# Altium schematic symbol library ON_OFF_FastCharger.SchLib: 23 symbols
Pins are listed as number, name and electrical type; pins without a type are passive.

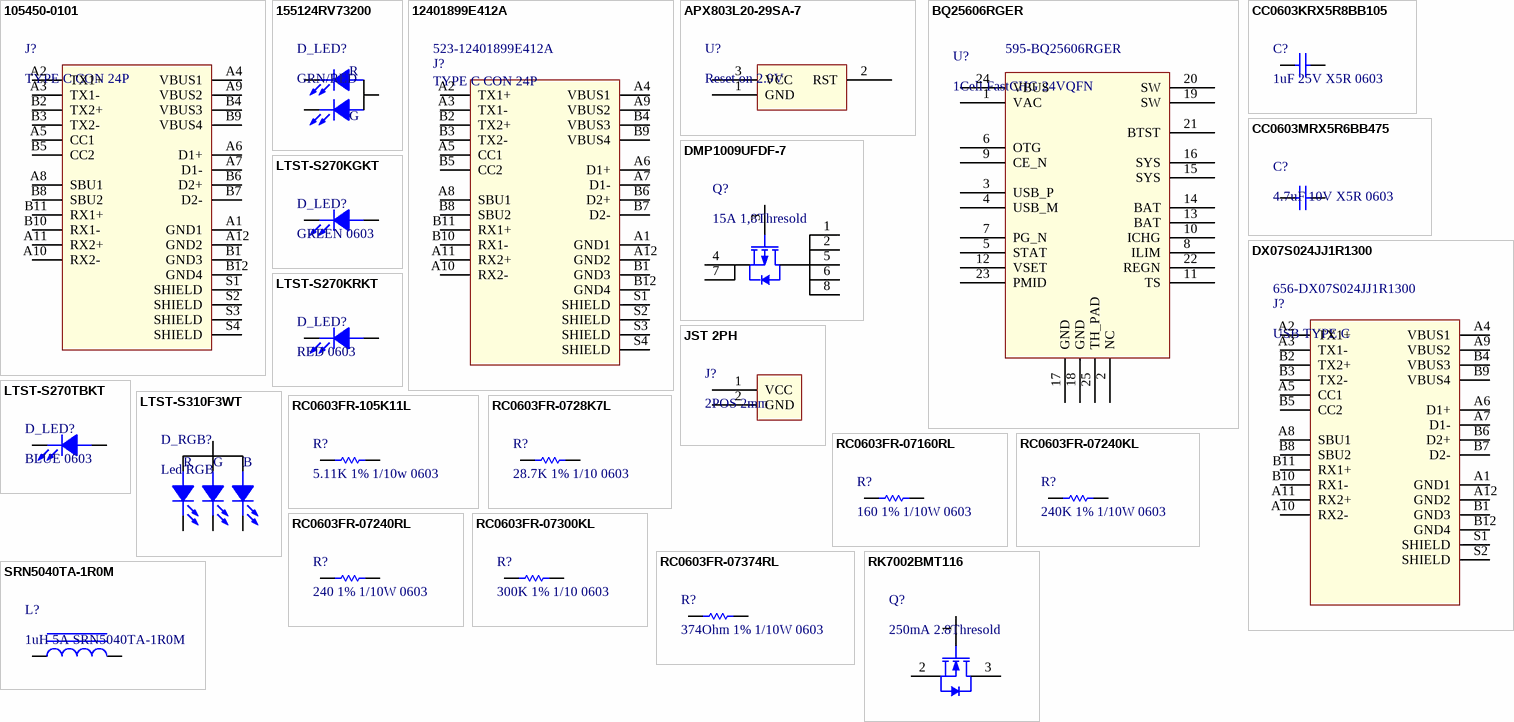
[diagram p0: symbols 105450-0101 to SRN5040TA-1R0M]

## 105450-0101
designator J?, comment TYPE C CON 24P
CONN RCP USB3.1 TYPEC 24P SMD RA; Manufacturer: Molex; Manufacturer Part Number: 105450-0101; Connector Type: USB; Number of Contacts: 24; Gender: Receptacle; Number of Ports: 1; Pitch: 0.5mm; Supplier 1: Mouser; RoHS: Yes; Stock 1: 12932; Pricing 1: 1 = 2,03000, 10 = 1,79000, 50 = 1,79000, 100 = 1,63000, 1000 = 1,38000, 10000 = 1,18000 (USD); Mount: Surface Mount; Case/Package: 0101; Number of Pins: 24; Contact Material: Copper Alloy; Contact Plating: Gold; Number of Terminals: 24; Housing Material: Thermoplastic; Min Operating Temperature: -30°C; Max Operating Temperature: 85°C; Packaging: Tape and Reel; Orientation: Right Angle; Termination: Solder; USB Standard: USB 3.1; Features: Shielded; Length: 8.94mm; REACH SVHC: Unknown; ComponentLink1URL: http://www.farnell.com/datasheets/2673427.pdf?src-supplier=Farnell; ComponentLink1Description: http://www.farnell.com/datasheets/2673427.pdf?src-supplier=Farnell; ComponentLink2URL: http://www.farnell.com/datasheets/2672741.pdf?src-supplier=Newark; ComponentLink2Description: http://www.farnell.com/datasheets/2672741.pdf?src-supplier=Newark; ComponentLink3URL: http://www.farnell.com/datasheets/2015275.pdf?src-supplier=Element14; ComponentLink3Description: http://www.farnell.com/datasheets/2015275.pdf?src-supplier=Element14; ComponentLink4URL: https://www.molex.com/pdm_docs/ps/PS-105448-001.pdf?src-supplier=Digi-Key; ComponentLink4Description: https://www.molex.com/pdm_docs/ps/PS-105448-001.pdf?src-supplier=Digi-Key; ComponentLink5URL: https://www.molex.com/pdm_docs/sd/1054500101_sd.pdf?src-supplier=Digi-Key; ComponentLink5Description: https://www.molex.com/pdm_docs/sd/1054500101_sd.pdf?src-supplier=Digi-Key; ComponentLink6URL: http://www.literature.molex.com/SQLImages/kelmscott/Molex/PDF_Images/987651-4081.PDF?src-supplier=Avnet; ComponentLink6Description: http://www.literature.molex.com/SQLImages/kelmscott/Molex/PDF_Images/987651-4081.PDF?src-supplier=Avnet; ComponentLink7URL: http://www.literature.molex.com/SQLImages/kelmscott/Molex/PDF_Images/987651-4081.PDF?src-supplier=Avnet+Asia; ComponentLink7Description: http://www.literature.molex.com/SQLImages/kelmscott/Molex/PDF_Images/987651-4081.PDF?src-supplier=Avnet+Asia; Supplier Part Number 1: 538-105450-0101
footprint MOLEX_105450-0101_105450-0101
pins: A1 GND1, A2 TX1+, A3 TX1-, A4 VBUS1, A5 CC1, A6 D1+, A7 D1-, A8 SBU1, A9 VBUS2, A10 RX2-, A11 RX2+, A12 GND2, B1 GND3, B2 TX2+, B3 TX2-, B4 VBUS3, B5 CC2, B6 D2+, B7 D2-, B8 SBU2, B9 VBUS4, B10 RX1-, B11 RX1+, B12 GND4, S1 SHIELD, S2 SHIELD, S3 SHIELD, S4 SHIELD

## 155124RV73200
designator D_LED?, comment GRN/RED
LED GRN/RED CLEAR 2SMD R/A; Manufacturer: Wurth Electronics; Manufacturer Part Number: 155124RV73200; Supplier 1: Mouser; RoHS: No; Stock 1: 7338; Pricing 1: 1 = 0,34000, 10 = 0,33600, 50 = 0,27100, 100 = 0,19500, 1000 = 0,17700, 10000 = 0,15900 (USD); ComponentLink1URL: http://www.farnell.com/datasheets/2301735.pdf?src-supplier=Farnell; ComponentLink1Description: http://www.farnell.com/datasheets/2301735.pdf?src-supplier=Farnell; ComponentLink2URL: https://katalog.we-online.de/led/datasheet/155124RV73200.pdf?src-supplier=Digi-Key; ComponentLink2Description: https://katalog.we-online.de/led/datasheet/155124RV73200.pdf?src-supplier=Digi-Key; ComponentLink3URL: http://katalog.we-online.de/led/datasheet/155124RV73200.pdf?src-supplier=Digi-Key; ComponentLink3Description: http://katalog.we-online.de/led/datasheet/155124RV73200.pdf?src-supplier=Digi-Key; Supplier Part Number 1: 710-155124RV73200
footprint 155124RV73200
pins: 1 CATHODE, 2 ANODE, 3 CATHODE
text: R; G

## 12401899E412A
designator J?, comment TYPE C CON 24P  Supplier Part Number 1: 523-12401899E412A
Conectores USB USB Type C RCPT SMT Top mnt dualrow IP52; Manufacturer 1: AMPHENOL ICC (COMMERCIAL PRODUCTS); Manufacturer Part Number 1: 12401899E412A; Supplier 1: Mouser; Stock 1: 597; Pricing 1: 1=1,66000, 10=1,51000, 25=1,41000, 50=1,35000, 100=1,29000, 250=1,23000, 500=1,07000 (USD); RoHS: No
footprint 12401899E412A
pins: A1 GND1, A2 TX1+, A3 TX1-, A4 VBUS1, A5 CC1, A6 D1+, A7 D1-, A8 SBU1, A9 VBUS2, A10 RX2-, A11 RX2+, A12 GND2, B1 GND3, B2 TX2+, B3 TX2-, B4 VBUS3, B5 CC2, B6 D2+, B7 D2-, B8 SBU2, B9 VBUS4, B10 RX1-, B11 RX1+, B12 GND4, S1 SHIELD, S2 SHIELD, S3 SHIELD, S4 SHIELD

## APX803L20-29SA-7
designator U?, comment Reset on 2.9V
RESET GENERATOR SOT23; Manufacturer: Diodes; Manufacturer Part Number: APX803L20-29SA-7; Supplier 1: Mouser; RoHS: No; Stock 1: 5468; Pricing 1: 1 = 0,37000, 10 = 0,27700, 50 = 0,27700, 100 = 0,15000, 1000 = 0,11300, 10000 = 0,09100 (USD); ComponentLink1URL: https://www.diodes.com/assets/Datasheets/APX803L.pdf?src-supplier=Digi-Key; ComponentLink1Description: https://www.diodes.com/assets/Datasheets/APX803L.pdf?src-supplier=Digi-Key; Supplier Part Number 1: 621-APX803L20-29SA-7
footprint SOT-23-3 (SOT23, 3-Leads, Body 2.92x1.3mm, Pitch 0.95mm)
pins: 1 GND, 2 RST, 3 VCC

## BQ25606RGER
designator U?, comment 1Cell FastCHG 24VQFN  Supplier Part Number 1: 595-BQ25606RGER
IC BATT CHG LI-ION 1 CELL 24VQFN; Manufacturer: Texas Instruments; Manufacturer Part Number: BQ25606RGER; Number of Cells: 1; Supplier 1: Mouser; RoHS: No; Stock 1: 20697; Pricing 1: 1 = 2,68000, 10 = 2,41000, 50 = 2,41000, 100 = 1,97000, 1000 = 1,41000, 10000 = 1,29000 (USD); ComponentLink1URL: http://www.ti.com/lit/ds/symlink/bq25606.pdf?src-supplier=Digi-Key; ComponentLink1Description: http://www.ti.com/lit/ds/symlink/bq25606.pdf?src-supplier=Digi-Key
footprint VQFN24 4x4mm
pins: 1 VAC, 2 NC, 3 USB_P, 4 USB_M, 5 STAT, 6 OTG, 7 PG_N, 8 ILIM, 9 CE_N, 10 ICHG, 11 TS, 12 VSET, 13 BAT, 14 BAT, 15 SYS, 16 SYS, 17 GND, 18 GND, 19 SW, 20 SW, 21 BTST, 22 REGN, 23 PMID, 24 VBUS, 25 TH_PAD

## CC0603KRX5R8BB105
designator C?, comment 1uF 25V X5R 0603
CAP CER 1UF 25V X5R 0603; Manufacturer: Yageo; Manufacturer Part Number: CC0603KRX5R8BB105; Tolerance: 10%; Supplier 1: Mouser; RoHS: Yes; Stock 1: 9605452; Pricing 1: 1 = 0,10000, 10 = 0,04700, 50 = 0,04700, 100 = 0,01700, 1000 = 0,01600, 10000 = 0,00800 (USD); Mount: Surface Mount; Case/Package: 0603; Number of Pins: 2; Case Code (Metric): 1608; Case Code (Imperial): 0603; Min Operating Temperature: -55°C; Max Operating Temperature: 85°C; Capacitance: 1uF; Dielectric: X5R; Package Quantity: 1; Voltage Rating: 25V; Packaging: Tape and Reel; Termination: SMD/SMT; Voltage Rating (DC): 25V; Length: 1.6mm; Height: 0.8mm; Width: 0.031inch; Thickness: 0.035inch; Depth: 0.8mm; Radiation Hardening: No; REACH SVHC: No SVHC; Lead Free: Lead Free; Halogen Free: Halogen Free; ComponentLink1URL: https://datasheet.ciiva.com/176/mlccorderingcode-176785.pdf?src-supplier=Digi-Key; ComponentLink1Description: https://datasheet.ciiva.com/176/mlccorderingcode-176785.pdf?src-supplier=Digi-Key; ComponentLink2URL: https://datasheet.ciiva.com/176/mlccorderingcode-176786.pdf?src-supplier=Digi-Key; ComponentLink2Description: https://datasheet.ciiva.com/176/mlccorderingcode-176786.pdf?src-supplier=Digi-Key; ComponentLink3URL: https://datasheet.ciiva.com/176/mlccorderingcode-176787.pdf?src-supplier=Digi-Key; ComponentLink3Description: https://datasheet.ciiva.com/176/mlccorderingcode-176787.pdf?src-supplier=Digi-Key; ComponentLink4URL: https://datasheet.ciiva.com/17436/upy-gphc-x5r-4v-to-50v-12-17436952.pdf?src-supplier=Avnet+Europe; ComponentLink4Description: https://datasheet.ciiva.com/17436/upy-gphc-x5r-4v-to-50v-12-17436952.pdf?src-supplier=Avnet+Europe; ComponentLink5URL: https://datasheet.ciiva.com/7978/1525783-7978171.pdf?src-supplier=Element14; ComponentLink5Description: https://datasheet.ciiva.com/7978/1525783-7978171.pdf?src-supplier=Element14; ComponentLink6URL: https://datasheet.ciiva.com/11586/upy-gphc-x5r-4v-to-50v-12-11586318.pdf?src-supplier=Avnet; ComponentLink6Description: https://datasheet.ciiva.com/11586/upy-gphc-x5r-4v-to-50v-12-11586318.pdf?src-supplier=Avnet; Supplier Part Number 1: 603-CC603KRX5R8BB105
footprint C 0603/1608
pins: 1, 2

## CC0603MRX5R6BB475
designator C?, comment 4.7uF 10V X5R 0603
Cap Ceramic 4.7uF 10V X5R 20% SMD 0603 85C Paper T/R; Manufacturer: Yageo; Manufacturer Part Number: CC0603MRX5R6BB475; Supplier 1: Mouser; RoHS: Yes; Stock 1: 4180; Pricing 1: 1 = 0,19000, 10 = 0,09400, 50 = 0,09400, 100 = 0,05100, 1000 = 0,05100, 10000 = 0,02800 (USD); Mount: Surface Mount; Case/Package: 0603; Case Code (Metric): 1608; Case Code (Imperial): 0603; Min Operating Temperature: -55°C; Max Operating Temperature: 85°C; Capacitance: 4.7uF; Tolerance: 20%; Packaging: Tape and Reel; Dielectric: X5R; Voltage Rating: 10V; Voltage Rating (DC): 10V; Length: 1.6mm; Width: 0.031inch; Thickness: 0.035inch; Depth: 0.8mm; Radiation Hardening: No; Lead Free: Lead Free; Halogen Free: Halogen Free; ComponentLink1URL: http://www.mouser.com/ds/2/447/UPY-GPHC_X5R_4V-to-50V_24-1109650.pdf?src-supplier=Mouser; ComponentLink1Description: http://www.mouser.com/ds/2/447/UPY-GPHC_X5R_4V-to-50V_24-1109650.pdf?src-supplier=Mouser; ComponentLink2URL: http://components.arrow.com/part/dataview/0323_04166524?src-supplier=Arrow+Europe; ComponentLink2Description: http://components.arrow.com/part/dataview/0323_04166524?src-supplier=Arrow+Europe; ComponentLink3URL: http://www.yageo.com/documents/recent/UPY-GPHC_X5R_4V-to-50V_25.pdf?src-supplier=Digi-Key; ComponentLink3Description: http://www.yageo.com/documents/recent/UPY-GPHC_X5R_4V-to-50V_25.pdf?src-supplier=Digi-Key; ComponentLink4URL: http://www.yageo.com/exep/pages/download/literatures/ProductSelectionGuide%202014_Final_2.pdf?src-supplier=Digi-Key; ComponentLink4Description: http://www.yageo.com/exep/pages/download/literatures/ProductSelectionGuide%202014_Final_2.pdf?src-supplier=Digi-Key; Supplier Part Number 1: 603-CC603MRX5R6BB475
footprint C 0603/1608
pins: 1, 2

## DMP1009UFDF-7
designator Q?, comment 15A 1,8Thresold
MOSFET P-CH 12V 15A UDFN2020-6; Manufacturer: Diodes; Manufacturer Part Number: DMP1009UFDF-7; Supplier 1: Mouser; RoHS: No; Stock 1: 2267; Pricing 1: 1 = 0,43000, 10 = 0,36100, 50 = 0,36100, 100 = 0,22000, 1000 = 0,17000, 10000 = 0,14500 (USD); ComponentLink1URL: https://www.diodes.com/assets/Datasheets/DMP1009UFDF.pdf?src-supplier=Digi-Key; ComponentLink1Description: https://www.diodes.com/assets/Datasheets/DMP1009UFDF.pdf?src-supplier=Digi-Key; Supplier Part Number 1: 621-DMP1009UFDF-7
footprint DMP1009UFDF-7
pins: 1 D, 2 D, 3 G, 4 S, 5 D, 6 D, 7 S, 8 D

## DX07S024JJ1R1300
designator J?, comment USB TYPE C  Supplier Part Number 1: 656-DX07S024JJ1R1300
Conectores USB USB Type C Rcptcl with Rear Shield; Manufacturer: JAE Electronics; Manufacturer Part Number: DX07S024JJ1R1300; Supplier 1: Mouser; RoHS: No; Category: Connectors; Stock 1: 2730
footprint DX07S024JJ1R1300
pins: A1 GND1, A2 TX1+, A3 TX1-, A4 VBUS1, A5 CC1, A6 D1+, A7 D1-, A8 SBU1, A9 VBUS2, A10 RX2-, A11 RX2+, A12 GND2, B1 GND3, B2 TX2+, B3 TX2-, B4 VBUS3, B5 CC2, B6 D2+, B7 D2-, B8 SBU2, B9 VBUS4, B10 RX1-, B11 RX1+, B12 GND4, S1 SHIELD, S2 SHIELD

## JST 2PH
designator J?, comment 2POS 2mm
https://lcsc.com/product-detail/Wire-To-Board-Wire-To-Wire-Connector_JST-Sales-America_B2B-PH-SM4-TBT-LF-SN_JST-Sales-America-B2B-PH-SM4-TBT-LF-SN_C265003.html
footprint JST 2PH
pins: 1 VCC, 2 GND

## LTST-S270KGKT
designator D_LED?, comment GREEN 0603
LED GREEN CLEAR 0603 R/A SMD; Manufacturer: Vishay Lite-On; Manufacturer Part Number: LTST-S270KGKT; Lens Color: Colorless; Forward Current: 30mA; Forward Voltage: 2V; Power Rating: 75mW; Luminous Intensity: 71mcd; Viewing Angle: 130°; Lens Style: Diffused; Dominant Wavelength: 571nm; Test Current: 20mA; Number of Elements: 1; Wavelength: 574nm; Reverse Voltage: 5V; Supplier 1: Mouser; RoHS: Yes; Stock 1: 134543; Pricing 1: 1 = 0,25000, 10 = 0,13000, 50 = 0,13000, 100 = 0,06100, 1000 = 0,04500, 10000 = 0,03400 (USD); Mount: Surface Mount; Case/Package: 0603; Number of Pins: 2; Color: Green; Case Code (Metric): 1608; Case Code (Imperial): 0603; Min Operating Temperature: -55°C; Max Operating Temperature: 85°C; Illumination Color: Green; Packaging: Tape and Reel; Package Quantity: 1; Lens Transparency: Clear; Power Dissipation: 75mW; Number of LEDs: 1; Length: 1.6mm; Height: 0.6mm; Width: 1.15mm; Depth: 0.6mm; Radiation Hardening: No; Lead Free: Lead Free; ComponentLink1URL: https://datasheet.ciiva.com/12400/ltst-s270kgkt-201847-12400865.pdf?src-supplier=Mouser; ComponentLink1Description: https://datasheet.ciiva.com/12400/ltst-s270kgkt-201847-12400865.pdf?src-supplier=Mouser; ComponentLink2URL: https://datasheet.ciiva.com/2110/ltst-s270kgkt-2110006.pdf?src-supplier=Digi-Key; ComponentLink2Description: https://datasheet.ciiva.com/2110/ltst-s270kgkt-2110006.pdf?src-supplier=Digi-Key; ComponentLink3URL: https://datasheet.ciiva.com/4266/dwonloadfilehandler-ashxtxtspecnods222000226-4266440.pdf?src-supplier=Arrow; ComponentLink3Description: https://datasheet.ciiva.com/4266/dwonloadfilehandler-ashxtxtspecnods222000226-4266440.pdf?src-supplier=Arrow; ComponentLink4URL: https://datasheet.ciiva.com/11774/0900766b80dc0b88-11774745.pdf?src-supplier=RSComponents; ComponentLink4Description: https://datasheet.ciiva.com/11774/0900766b80dc0b88-11774745.pdf?src-supplier=RSComponents; ComponentLink5URL: https://datasheet.ciiva.com/16448/ltst-s270kgkt-16448566.pdf?src-supplier=Future+Electronics; ComponentLink5Description: https://datasheet.ciiva.com/16448/ltst-s270kgkt-16448566.pdf?src-supplier=Future+Electronics; ComponentLink6URL: https://datasheet.ciiva.com/2110/s-110-ltst-s270kgkt-2110007.pdf?src-supplier=Digi-Key; ComponentLink6Description: https://datasheet.ciiva.com/2110/s-110-ltst-s270kgkt-2110007.pdf?src-supplier=Digi-Key; ComponentLink7URL: https://datasheet.ciiva.com/2110/s-110-ltst-s270kgkt-2110008.pdf?src-supplier=Digi-Key; ComponentLink7Description: https://datasheet.ciiva.com/2110/s-110-ltst-s270kgkt-2110008.pdf?src-supplier=Digi-Key; Supplier Part Number 1: 859-LTST-S270KGKT
footprint LED 0603/1608 SideView
pins: 1 CATHODE, 2 ANODE

## LTST-S270KRKT
designator D_LED?, comment RED 0603
LED RED CLEAR CHIP SMD R/A; Manufacturer: Vishay Lite-On; Manufacturer Part Number: LTST-S270KRKT; Lens Color: Colorless; Forward Voltage: 2V; Forward Current: 30mA; Luminous Intensity: 54mcd; Viewing Angle: 130°; Lens Style: Diffused; Power Rating: 75mW; Dominant Wavelength: 631nm; Test Current: 20mA; Number of Elements: 1; Wavelength: 639nm; Reverse Voltage: 5V; Supplier 1: Mouser; RoHS: Yes; Stock 1: 25809; Pricing 1: 1 = 0,25000, 10 = 0,13000, 50 = 0,13000, 100 = 0,06100, 1000 = 0,04500, 10000 = 0,03400 (USD); Mount: Surface Mount; Case/Package: 0603; Number of Pins: 2; Color: Red; Case Code (Metric): 1608; Case Code (Imperial): 0603; Min Operating Temperature: -55°C; Max Operating Temperature: 85°C; Packaging: Tape and Reel; Package Quantity: 1; Illumination Color: Red; Lens Transparency: Clear; Power Dissipation: 75mW; Number of LEDs: 1; Max Power Dissipation: 75mW; Length: 1.6mm; Height: 0.6mm; Width: 1.15mm; Depth: 0.6mm; Radiation Hardening: No; Lead Free: Lead Free; ComponentLink1URL: https://datasheet.ciiva.com/12400/ltst-s270krkt-201849-12400833.pdf?src-supplier=Mouser; ComponentLink1Description: https://datasheet.ciiva.com/12400/ltst-s270krkt-201849-12400833.pdf?src-supplier=Mouser; ComponentLink2URL: https://datasheet.ciiva.com/16387/p-100-ltst-s270krkt-16387507.pdf?src-supplier=Future+Electronics; ComponentLink2Description: https://datasheet.ciiva.com/16387/p-100-ltst-s270krkt-16387507.pdf?src-supplier=Future+Electronics; ComponentLink3URL: https://datasheet.ciiva.com/2110/ltst-s270krkt-2110021.pdf?src-supplier=Digi-Key; ComponentLink3Description: https://datasheet.ciiva.com/2110/ltst-s270krkt-2110021.pdf?src-supplier=Digi-Key; ComponentLink4URL: https://datasheet.ciiva.com/11775/0900766b80dc0b8e-11775445.pdf?src-supplier=RSComponents; ComponentLink4Description: https://datasheet.ciiva.com/11775/0900766b80dc0b8e-11775445.pdf?src-supplier=RSComponents; ComponentLink5URL: https://datasheet.ciiva.com/2110/s-110-ltst-s270krkt-2110022.pdf?src-supplier=Digi-Key; ComponentLink5Description: https://datasheet.ciiva.com/2110/s-110-ltst-s270krkt-2110022.pdf?src-supplier=Digi-Key; ComponentLink6URL: https://datasheet.ciiva.com/2110/s-110-ltst-s270krkt-2110023.pdf?src-supplier=Digi-Key; ComponentLink6Description: https://datasheet.ciiva.com/2110/s-110-ltst-s270krkt-2110023.pdf?src-supplier=Digi-Key; Supplier Part Number 1: 859-LTST-S270KRKT
footprint LED 0603/1608 SideView
pins: 1 CATHODE, 2 ANODE

## LTST-S270TBKT
designator D_LED?, comment BLUE 0603
LED BLUE CLEAR CHIP SMD R/A; Manufacturer: Vishay Lite-On; Manufacturer Part Number: LTST-S270TBKT; Lens Color: Colorless; Forward Voltage: 3.8V; Luminous Intensity: 30mcd; Test Current: 20mA; Viewing Angle: 130°; Dominant Wavelength: 475nm; Number of Elements: 1; Power Dissipation: 120mW; Wavelength: 468nm; Reverse Voltage: 5V; Supplier 1: Mouser; RoHS: Yes; Stock 1: 9418; Pricing 1: 1 = 0,50000, 10 = 0,27000, 50 = 0,27000, 100 = 0,12700, 1000 = 0,09200, 10000 = 0,06400 (USD); Mount: Surface Mount; Case/Package: 0603; Number of Pins: 2; Color: Blue; Case Code (Metric): 1608; Case Code (Imperial): 0603; Min Operating Temperature: -20°C; Max Operating Temperature: 80°C; Package Quantity: 4000; Lens Style: Clear; Packaging: Tape and Reel; Forward Current: 20mA; Illumination Color: Blue; Number of LEDs: 1; Lens Transparency: Clear; Length: 1.6mm; Height: 0.6mm; Width: 1.15mm; Depth: 0.6mm; Radiation Hardening: No; Lead Free: Lead Free; ComponentLink1URL: https://datasheet.ciiva.com/2110/ltst-s270tbkt-2110470.pdf?src-supplier=Digi-Key; ComponentLink1Description: https://datasheet.ciiva.com/2110/ltst-s270tbkt-2110470.pdf?src-supplier=Digi-Key; ComponentLink2URL: https://datasheet.ciiva.com/15117/getdatasheetpartid-146477-15117848.pdf?src-supplier=Verical; ComponentLink2Description: https://datasheet.ciiva.com/15117/getdatasheetpartid-146477-15117848.pdf?src-supplier=Verical; ComponentLink3URL: https://datasheet.ciiva.com/12403/ltst-s270tbkt-201821-12403790.pdf?src-supplier=Mouser; ComponentLink3Description: https://datasheet.ciiva.com/12403/ltst-s270tbkt-201821-12403790.pdf?src-supplier=Mouser; ComponentLink4URL: https://datasheet.ciiva.com/2110/s-110-ltst-s270tbkt-2110471.pdf?src-supplier=Digi-Key; ComponentLink4Description: https://datasheet.ciiva.com/2110/s-110-ltst-s270tbkt-2110471.pdf?src-supplier=Digi-Key; ComponentLink5URL: https://datasheet.ciiva.com/2110/s-110-ltst-s270tbkt-2110472.pdf?src-supplier=Digi-Key; ComponentLink5Description: https://datasheet.ciiva.com/2110/s-110-ltst-s270tbkt-2110472.pdf?src-supplier=Digi-Key; Supplier Part Number 1: 859-LTST-S270TBKT
footprint LED 0603/1608 SideView
pins: 1 CATHODE, 2 ANODE

## LTST-S310F3WT
designator D_RGB?, comment Led RGB
LED Tri-Color Blue/Green/Red 468nm/520nm/632nm 4-Pin Chip LED T/R; Manufacturer 1: Vishay Lite-On; Manufacturer Part Number 1: LTST-S310F3WT; Lens Color: White; Viewing Angle: 130°; Lens Style: Diffused,Colorless,Rectangular; Luminous Intensity: 104mcd; Lens Transparency: Diffused; Test Current: 20mA; Dominant Wavelength: 470nm; Number of Elements: 3; Forward Voltage: 3.5V; Reverse Voltage: 5V; Supplier 1: Mouser; Stock 1: 8640; Pricing 1: 1=0,91000, 10=0,59000, 50=0,59000, 100=0,44600, 500=0,38600, 1000=0,30500, 3000=0,27400, 9000=0,27000, 10000=0,27000, 24000=0,26400, 45000=0,25400 (USD); RoHS: Yes; Mount: Surface Mount; Case/Package: SMD/SMT; Number of Pins: 4; Color: Blue,Green,Red; Min Operating Temperature: -20°C; Max Operating Temperature: 80°C; Package Quantity: 3000; Packaging: Tape and Reel; Number of LEDs: 3; Length: 3.2mm; Height: 1mm; Width: 1.5mm; Depth: 1mm; Radiation Hardening: No; ComponentLink1URL: http://components.arrow.com/part/dataview/0323_04169278?src-supplier=Arrow+Europe; ComponentLink1Description: http://components.arrow.com/part/dataview/0323_04169278?src-supplier=Arrow+Europe; ComponentLink2URL: http://components.arrow.com/part/dataview/45774816S9812950N1331?src-supplier=Arrow; ComponentLink2Description: http://components.arrow.com/part/dataview/45774816S9812950N1331?src-supplier=Arrow; ComponentLink3URL: http://optoelectronics.liteon.com/ko-kr/api/DwonloadFileHandler.ashx?txtSpecNo=DS22-2005-062&txtPartNo=LTST-S310F3WT&src-supplier=Avnet; ComponentLink3Description: http://optoelectronics.liteon.com/ko-kr/api/DwonloadFileHandler.ashx?txtSpecNo=DS22-2005-062&txtPartNo=LTST-S310F3WT&src-supplier=Avnet; ComponentLink4URL: http://optoelectronics.liteon.com/en-us/product/detail.aspx?txtSpecNo=DS22-2005-062&txtPartNo=LTST-S310F3WT&src-supplier=Mouser; ComponentLink4Description: http://optoelectronics.liteon.com/en-us/product/detail.aspx?txtSpecNo=DS22-2005-062&txtPartNo=LTST-S310F3WT&src-supplier=Mouser; Supplier Part Number 1: 859-LTST-S310F3WT
footprint LTST-S310F3WT
pins: 1 CATHODE, 2 CATHODE, 3 CATHODE, 4 ANODE
text: R; G; B

## RC0603FR-105K11L
designator R?, comment 5.11K 1% 1/10w 0603
Resistores de pel&iacute;cula gruesa - SMD 5.11K ohm 1% 75V General Purpose; Manufacturer: Yageo; Manufacturer Part Number: RC0603FR-105K11L; Resistance: 5.11kR; Temperature Coefficient: 100ppm/°C; Supplier 1: Mouser; RoHS: Yes; Stock 1: 112184; Pricing 1: 1 = 0,10000, 10 = 0,01800, 50 = 0,01800, 100 = 0,00600, 1000 = 0,00500, 10000 = 0,00300 (USD); Case/Package: 0603; Contact Plating: Tin; Min Operating Temperature: -55°C; Max Operating Temperature: 155°C; Tolerance: 1%; Composition: Thick Film; Radiation Hardening: No; ComponentLink1URL: http://www.yageo.com/documents/recent/PYu-RC_Group_51_RoHS_L_2.pdf?src-supplier=Avnet; ComponentLink1Description: http://www.yageo.com/documents/recent/PYu-RC_Group_51_RoHS_L_2.pdf?src-supplier=Avnet; ComponentLink2URL: http://www.yageo.com/documents/recent/PYu-RC0603_51_RoHS_L_5.pdf?src-supplier=Avnet+Europe; ComponentLink2Description: http://www.yageo.com/documents/recent/PYu-RC0603_51_RoHS_L_5.pdf?src-supplier=Avnet+Europe; Supplier Part Number 1: 603-RC0603FR-105K11L
footprint R 0603/1608
pins: 1, 2

## RC0603FR-0728K7L
designator R?, comment 28.7K 1% 1/10 0603
RES SMD 28.7K OHM 1% 1/10W 0603; Manufacturer: Yageo; Manufacturer Part Number: RC0603FR-0728K7L; Voltage Rating: 50V; Resistance: 28.7kR; Power Rating: 100mW; Temperature Coefficient: 100ppm/°C; Supplier 1: Mouser; RoHS: Yes; Stock 1: 70103; Pricing 1: 1 = 0,10000, 10 = 0,01800, 50 = 0,01800, 100 = 0,00600, 1000 = 0,00500, 10000 = 0,00300 (USD); Mount: Surface Mount; Case/Package: 0603; Case Code (Imperial): 0603; Case Code (Metric): 1608; Min Operating Temperature: -55°C; Max Operating Temperature: 155°C; Packaging: Tape and Reel; Tolerance: 1%; Package Quantity: 1; Composition: Thick Film; Termination: SMD/SMT; Number of Terminations: 2; Military Standard: Not; Max Power Dissipation: 100mW; Voltage Rating (DC): 50V; Features: Moisture Resistant; Length: 1.6mm; Height: 0.022inch; Width: 0.031inch; Depth: 0.8mm; Lead Free: Lead Free; ComponentLink1URL: https://datasheet.ciiva.com/11808/0900766b80f96399-11808744.pdf?src-supplier=RSComponents; ComponentLink1Description: https://datasheet.ciiva.com/11808/0900766b80f96399-11808744.pdf?src-supplier=RSComponents; ComponentLink2URL: https://datasheet.ciiva.com/2553/pyu-r-int-thick-7-2553533.pdf?src-supplier=Digi-Key; ComponentLink2Description: https://datasheet.ciiva.com/2553/pyu-r-int-thick-7-2553533.pdf?src-supplier=Digi-Key; ComponentLink3URL: https://datasheet.ciiva.com/2553/pyu-r-int-thick-7-2553534.pdf?src-supplier=Digi-Key; ComponentLink3Description: https://datasheet.ciiva.com/2553/pyu-r-int-thick-7-2553534.pdf?src-supplier=Digi-Key; ComponentLink4URL: https://datasheet.ciiva.com/2553/pyu-r-int-thick-7-2553535.pdf?src-supplier=Digi-Key; ComponentLink4Description: https://datasheet.ciiva.com/2553/pyu-r-int-thick-7-2553535.pdf?src-supplier=Digi-Key; Supplier Part Number 1: 603-RC0603FR-0728K7L
footprint R 0603/1608
pins: 1, 2

## RC0603FR-07160RL
designator R?, comment 160 1% 1/10W 0603
RES SMD 160 OHM 1% 1/10W 0603; Manufacturer: Yageo; Manufacturer Part Number: RC0603FR-07160RL; Power Rating: 100mW; Resistance: 160R; Voltage Rating: 75V; Temperature Coefficient: 100ppm/°C; Voltage Rating (DC): 50V; Supplier 1: Mouser; RoHS: Yes; Stock 1: 164090; Pricing 1: 1 = 0,10000, 10 = 0,01800, 50 = 0,01800, 100 = 0,00600, 1000 = 0,00500, 10000 = 0,00300 (USD); Mount: Surface Mount; Case/Package: 0603; Weight: 7.1E-05oz; Case Code (Metric): 1608; Case Code (Imperial): 0603; Min Operating Temperature: -55°C; Max Operating Temperature: 155°C; Tolerance: 1%; Packaging: Tape and Reel; Package Quantity: 1; Composition: Thick Film; Number of Terminations: 2; Termination: SMD/SMT; Military Standard: Not; Max Power Dissipation: 100mW; Features: Moisture Resistant; Length: 1.6mm; Height: 0.45mm; Width: 0.031inch; Depth: 0.8mm; Lead Free: Lead Free; ComponentLink1URL: https://datasheet.ciiva.com/11808/0900766b80f96399-11808753.pdf?src-supplier=RSComponents; ComponentLink1Description: https://datasheet.ciiva.com/11808/0900766b80f96399-11808753.pdf?src-supplier=RSComponents; ComponentLink2URL: https://datasheet.ciiva.com/2454/pyu-r-int-thick-7-2454168.pdf?src-supplier=Digi-Key; ComponentLink2Description: https://datasheet.ciiva.com/2454/pyu-r-int-thick-7-2454168.pdf?src-supplier=Digi-Key; ComponentLink3URL: https://datasheet.ciiva.com/2454/pyu-r-int-thick-7-2454169.pdf?src-supplier=Digi-Key; ComponentLink3Description: https://datasheet.ciiva.com/2454/pyu-r-int-thick-7-2454169.pdf?src-supplier=Digi-Key; ComponentLink4URL: https://datasheet.ciiva.com/2454/pyu-r-int-thick-7-2454170.pdf?src-supplier=Digi-Key; ComponentLink4Description: https://datasheet.ciiva.com/2454/pyu-r-int-thick-7-2454170.pdf?src-supplier=Digi-Key; Supplier Part Number 1: 603-RC0603FR-07160RL
footprint R 0603/1608
pins: 1, 2

## RC0603FR-07240KL
designator R?, comment 240K 1% 1/10W 0603
RES SMD 240K OHM 1% 1/10W 0603; Manufacturer: Yageo; Manufacturer Part Number: RC0603FR-07240KL; Resistance: 240kR; Power Rating: 100mW; Temperature Coefficient: 100ppm/°C; Voltage Rating (DC): 50V; Supplier 1: Mouser; RoHS: Yes; Stock 1: 276570; Pricing 1: 1 = 0,10000, 10 = 0,01800, 50 = 0,01800, 100 = 0,00600, 1000 = 0,00500, 10000 = 0,00300 (USD); Mount: Surface Mount; Case/Package: 0603; Case Code (Imperial): 0603; Case Code (Metric): 1608; Min Operating Temperature: -55°C; Max Operating Temperature: 155°C; Packaging: Tape and Reel; Tolerance: 1%; Voltage Rating: 50V; Package Quantity: 1; Termination: SMD/SMT; Composition: Thick Film; Number of Terminations: 2; Military Standard: Not; Max Power Dissipation: 100mW; Features: Moisture Resistant; Length: 1.6mm; Height: 0.45mm; Width: 0.8mm; Depth: 0.8mm; Lead Free: Lead Free; ComponentLink1URL: https://datasheet.ciiva.com/12558/rc0603-272842-12558325.pdf?src-supplier=Mouser; ComponentLink1Description: https://datasheet.ciiva.com/12558/rc0603-272842-12558325.pdf?src-supplier=Mouser; ComponentLink2URL: https://datasheet.ciiva.com/2454/pyu-r-int-thick-7-2454765.pdf?src-supplier=Digi-Key; ComponentLink2Description: https://datasheet.ciiva.com/2454/pyu-r-int-thick-7-2454765.pdf?src-supplier=Digi-Key; ComponentLink3URL: https://datasheet.ciiva.com/2454/pyu-r-int-thick-7-2454766.pdf?src-supplier=Digi-Key; ComponentLink3Description: https://datasheet.ciiva.com/2454/pyu-r-int-thick-7-2454766.pdf?src-supplier=Digi-Key; ComponentLink4URL: https://datasheet.ciiva.com/2454/pyu-r-int-thick-7-2454767.pdf?src-supplier=Digi-Key; ComponentLink4Description: https://datasheet.ciiva.com/2454/pyu-r-int-thick-7-2454767.pdf?src-supplier=Digi-Key; Supplier Part Number 1: 603-RC0603FR-07240KL
footprint R 0603/1608
pins: 1, 2

## RC0603FR-07240RL
designator R?, comment 240 1% 1/10W 0603
RES SMD 240 OHM 1% 1/10W 0603; Manufacturer: Yageo; Manufacturer Part Number: RC0603FR-07240RL; Resistance: 240R; Temperature Coefficient: 100ppm/°C; Voltage Rating (DC): 50V; Power Rating: 100mW; Working Voltage: 75V; Supplier 1: Mouser; RoHS: Yes; Stock 1: 436718; Pricing 1: 1 = 0,10000, 10 = 0,01800, 50 = 0,01800, 100 = 0,00600, 1000 = 0,00500, 10000 = 0,00300 (USD); Case/Package: 0603; Case Code (Metric): 1608; Case Code (Imperial): 0603; Min Operating Temperature: -55°C; Max Operating Temperature: 155°C; Tolerance: 1%; Composition: Thick Film; Packaging: Tape and Reel; Package Quantity: 1; Voltage Rating: 50V; Number of Terminations: 2; Termination: SMD/SMT; Military Standard: Not; Max Power Dissipation: 100mW; Features: Moisture Resistant; Length: 1.6mm; Height: 0.022inch; Width: 0.031inch; Depth: 0.8mm; Lead Free: Lead Free; ComponentLink1URL: https://datasheet.ciiva.com/2508/pyu-r-int-thick-7-2508497.pdf?src-supplier=Digi-Key; ComponentLink1Description: https://datasheet.ciiva.com/2508/pyu-r-int-thick-7-2508497.pdf?src-supplier=Digi-Key; ComponentLink2URL: https://datasheet.ciiva.com/2508/pyu-r-int-thick-7-2508498.pdf?src-supplier=Digi-Key; ComponentLink2Description: https://datasheet.ciiva.com/2508/pyu-r-int-thick-7-2508498.pdf?src-supplier=Digi-Key; ComponentLink3URL: https://datasheet.ciiva.com/2508/pyu-r-int-thick-7-2508499.pdf?src-supplier=Digi-Key; ComponentLink3Description: https://datasheet.ciiva.com/2508/pyu-r-int-thick-7-2508499.pdf?src-supplier=Digi-Key; Supplier Part Number 1: 603-RC0603FR-07240RL
footprint R 0603/1608
pins: 1, 2

## RC0603FR-07300KL
designator R?, comment 300K 1% 1/10 0603
RES SMD 300K OHM 1% 1/10W 0603; Manufacturer: Yageo; Manufacturer Part Number: RC0603FR-07300KL; Resistance: 300kR; Power Rating: 100mW; Temperature Coefficient: 100ppm/°C; Voltage Rating (DC): 50V; Supplier 1: Mouser; Stock 1: 97844; Pricing 1: 1=0.1, 10=0.018, 50=0.018, 100=0.006, 1000=0.005, 10000=0.003 (USD); Mount: Surface Mount; Case/Package: 0603; Case Code (Metric): 1608; Case Code (Imperial): 0603; Min Operating Temperature: -55°C; Max Operating Temperature: 155°C; Tolerance: 1%; Packaging: Tape and Reel; Package Quantity: 1; Voltage Rating: 50V; Composition: Thick Film; Number of Terminations: 2; Termination: SMD/SMT; Military Standard: Not; Max Power Dissipation: 100mW; Features: Moisture Resistant; Length: 0.063inch; Height: 0.022inch; Width: 0.031inch; Depth: 0.8mm; Lead Free: Lead Free; ComponentLink1URL: http://www.yageo.com/documents/recent/PYu-RC_Group_51_RoHS_L_9.pdf?src-supplier=Digi-Key; ComponentLink1Description: http://www.yageo.com/documents/recent/PYu-RC_Group_51_RoHS_L_9.pdf?src-supplier=Digi-Key; ComponentLink2URL: http://www.yageo.com/documents/recent/PYu-RC_Group_51_RoHS_L_10.pdf?src-supplier=Digi-Key; ComponentLink2Description: http://www.yageo.com/documents/recent/PYu-RC_Group_51_RoHS_L_10.pdf?src-supplier=Digi-Key; ComponentLink3URL: https://www.verical.com/server-webapp/html/getDatasheet?partID=348071&src-supplier=Verical; ComponentLink3Description: https://www.verical.com/server-webapp/html/getDatasheet?partID=348071&src-supplier=Verical; Supplier Part Number 1: 603-RC0603FR-07300KL
footprint R 0603/1608
pins: 1, 2

## RC0603FR-07374RL
designator R?, comment 374Ohm 1% 1/10W 0603
RES SMD 374 OHM 1% 1/10W 0603; Manufacturer: Yageo; Manufacturer Part Number: RC0603FR-07374RL; Resistance: 374R; Power Rating: 100mW; Voltage Rating: 50V; Temperature Coefficient: 100ppm/°C; Supplier 1: Mouser; RoHS: Yes; Stock 1: 84898; Pricing 1: 1 = 0,10000, 10 = 0,01800, 50 = 0,01800, 100 = 0,00600, 1000 = 0,00500, 10000 = 0,00300 (USD); Case/Package: 0603; Case Code (Metric): 1608; Case Code (Imperial): 0603; Min Operating Temperature: -55°C; Max Operating Temperature: 155°C; Tolerance: 1%; Packaging: Tape and Reel; Package Quantity: 1; Composition: Thick Film; Number of Terminations: 2; Termination: SMD/SMT; Military Standard: Not; Max Power Dissipation: 100mW; Voltage Rating (DC): 50V; Features: Moisture Resistant; Length: 0.063inch; Height: 0.022inch; Width: 0.031inch; Depth: 0.8mm; Lead Free: Lead Free; ComponentLink1URL: https://datasheet.ciiva.com/2454/pyu-r-int-thick-7-2454972.pdf?src-supplier=Digi-Key; ComponentLink1Description: https://datasheet.ciiva.com/2454/pyu-r-int-thick-7-2454972.pdf?src-supplier=Digi-Key; ComponentLink2URL: https://datasheet.ciiva.com/2454/pyu-r-int-thick-7-2454973.pdf?src-supplier=Digi-Key; ComponentLink2Description: https://datasheet.ciiva.com/2454/pyu-r-int-thick-7-2454973.pdf?src-supplier=Digi-Key; ComponentLink3URL: https://datasheet.ciiva.com/2454/pyu-r-int-thick-7-2454974.pdf?src-supplier=Digi-Key; ComponentLink3Description: https://datasheet.ciiva.com/2454/pyu-r-int-thick-7-2454974.pdf?src-supplier=Digi-Key; Supplier Part Number 1: 603-RC0603FR-07374RL
footprint R 0603/1608
pins: 1, 2

## RK7002BMT116
designator Q?, comment 250mA 2.8Thresold
MOSFET N-CH 60V 0.25A SST3; Manufacturer: Rohm; Manufacturer Part Number: RK7002BMT116; Rds On Max: 2.4R; Input Capacitance: 15pF; Max Power Dissipation: 200mW; Number of Channels: 1; Drain to Source Resistance: 1.7R; Gate to Source Voltage (Vgs): 20V; Fall Time: 28ns; Rise Time: 5ns; Turn-Off Delay Time: 18ns; Turn-On Delay Time: 3.5ns; FET Type: 1 N-Channel; Supplier 1: Mouser; Stock 1: 237072; Pricing 1: 1=0.15, 10=0.133, 50=0.133, 100=0.047, 1000=0.031, 10000=0.021 (USD); Mount: Surface Mount; Case/Package: TO-236-3; Max Operating Temperature: 150°C; Package Quantity: 3000; Packaging: Tape and Reel; Drain to Source Voltage (Vdss): 60V; Continuous Drain Current (ID): 250mA; Drain to Source Breakdown Voltage: 60V; Lead Free: Lead Free; Supplier Part Number 1: 755-RK7002BMT116
footprint SOT-23-3 (SOT23, 3-Leads, Body 2.92x1.3mm, Pitch 0.95mm)
pins: 1 G, 2 S, 3 D

## SRN5040TA-1R0M
designator L?, comment 1uH 5A SRN5040TA-1R0M
FIXED IND 1UH 5A 12MOHM SMD; Manufacturer: Bourns; Supplier 1: Mouser; Manufacturer Part Number: SRN5040TA-1R0M; RoHS: No; Stock 1: 470; Pricing 1: 1 = 0,32000, 10 = 0,28100, 50 = 0,22100, 100 = 0,20000, 1000 = 0,13600, 10000 = 0,13300 (USD); ComponentLink1URL: https://www.bourns.com/docs/Product-Datasheets/SRN5040TA.pdf?src-supplier=Digi-Key; ComponentLink1Description: https://www.bourns.com/docs/Product-Datasheets/SRN5040TA.pdf?src-supplier=Digi-Key; Supplier Part Number 1: 652-SRN5040TA-1R0M
footprint SRN5040TA-1R0M
pins: 1, 2